# EAGLE library part AS3935 (library arducorder-mini)
Australia Micro Systems AS3935 Franklin Lightning Sensor IC
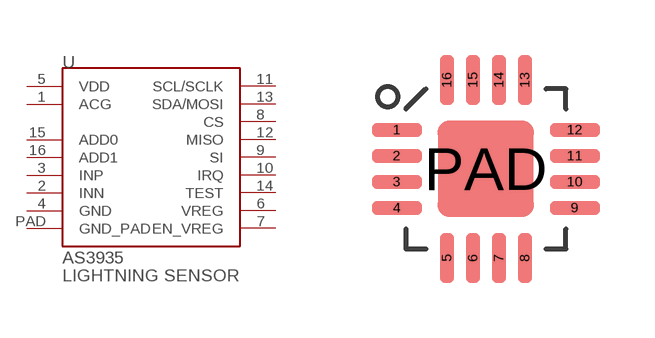
[diagram p10: symbol with the pads of 16LD_MLPQ-(4X4MM); footprint 16LD_MLPQ-(4X4MM)]

Designator prefix -

## AS3935  [16LD_MLPQ-(4X4MM)]
1  ACG
2  INN
3  INP
4  GND
5  VDD
6  VREG
7  EN_VREG
8  CS
9  SI
10  IRQ
11  SCL/SCLK
12  MISO
13  SDA/MOSI
14  TEST
15  ADD0
16  ADD1
PAD  GND_PAD

## Footprint 16LD_MLPQ-(4X4MM) (pad centres in mm)
smd 1.25 x 0.35: 1 -2.225,0.975; 2 -2.225,0.325; 3 -2.225,-0.325; 4 -2.225,-0.975; 9 2.225,-0.975; 10 2.225,-0.325; 11 2.225,0.325; 12 2.225,0.975
smd 0.35 x 1.25: 5 -0.975,-2.225; 6 -0.325,-2.225; 7 0.325,-2.225; 8 0.975,-2.225; 13 0.975,2.225; 14 0.325,2.225; 15 -0.325,2.225; 16 -0.975,2.225
smd 2.4 x 2.4: PAD 0,0